# Altium schematic symbol library TVGP01-G73BB.SchLib: 1 symbol
Pins are listed as number, name and electrical type; pins without a type are passive.

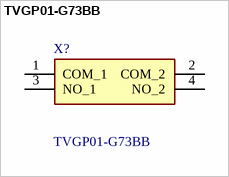
[diagram p0: symbol TVGP01-G73BB]

## TVGP01-G73BB
designator X?
Tactile Switch; Manufacturer_Name: Zhejiang Jianfu Electronics Co., Ltd; Geometry.Height: 7.6mm; RS Part Number: *; RS Price/Stock: *; Manufacturer_Part_Number: TVGP01-G73BB; Datasheet Link: http://akizukidenshi.com/download/ds/jianfu/TVGP01-G73BB.pdf
footprint TVGP01G73BB
pins: 1 COM_1, 2 COM_2, 3 NO_1, 4 NO_2